# Altium schematic symbol library SCH - ARM CORTEX - STM STM32F103T(4-6)Ux.SchLib: 1 symbol
Pins are listed as number, name and electrical type; pins without a type are passive.

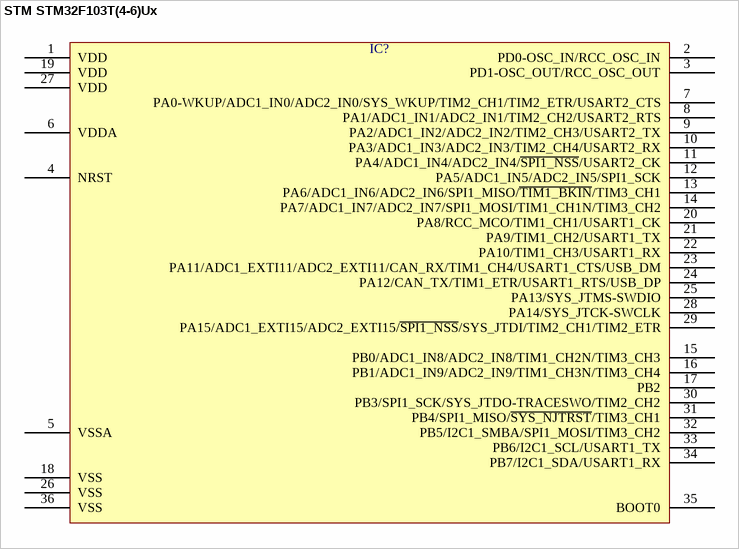
[diagram p0: symbol STM STM32F103T(4-6)Ux]

## STM STM32F103T(4-6)Ux
designator IC?  (value not drawn)
pins: 1 VDD, 2 PD0-OSC_IN/RCC_OSC_IN, 3 PD1-OSC_OUT/RCC_OSC_OUT, 4 NRST, 5 VSSA, 6 VDDA, 7 PA0-WKUP/ADC1_IN0/ADC2_IN0/SYS_WKUP/TIM2_CH1/TIM2_ETR/USART2_CTS, 8 PA1/ADC1_IN1/ADC2_IN1/TIM2_CH2/USART2_RTS, 9 PA2/ADC1_IN2/ADC2_IN2/TIM2_CH3/USART2_TX, 10 PA3/ADC1_IN3/ADC2_IN3/TIM2_CH4/USART2_RX, 11 PA4/ADC1_IN4/ADC2_IN4/~{SPI1_NSS}/USART2_CK, 12 PA5/ADC1_IN5/ADC2_IN5/SPI1_SCK, 13 PA6/ADC1_IN6/ADC2_IN6/SPI1_MISO/~{TIM1_BKIN}/TIM3_CH1, 14 PA7/ADC1_IN7/ADC2_IN7/SPI1_MOSI/TIM1_CH1N/TIM3_CH2, 15 PB0/ADC1_IN8/ADC2_IN8/TIM1_CH2N/TIM3_CH3, 16 PB1/ADC1_IN9/ADC2_IN9/TIM1_CH3N/TIM3_CH4, 17 PB2, 18 VSS, 19 VDD, 20 PA8/RCC_MCO/TIM1_CH1/USART1_CK, 21 PA9/TIM1_CH2/USART1_TX, 22 PA10/TIM1_CH3/USART1_RX, 23 PA11/ADC1_EXTI11/ADC2_EXTI11/CAN_RX/TIM1_CH4/USART1_CTS/USB_DM, 24 PA12/CAN_TX/TIM1_ETR/USART1_RTS/USB_DP, 25 PA13/SYS_JTMS-SWDIO, 26 VSS, 27 VDD, 28 PA14/SYS_JTCK-SWCLK, 29 PA15/ADC1_EXTI15/ADC2_EXTI15/~{SPI1_NSS}/SYS_JTDI/TIM2_CH1/TIM2_ETR, 30 PB3/SPI1_SCK/SYS_JTDO-TRACESWO/TIM2_CH2, 31 PB4/SPI1_MISO/~{SYS_NJTRST}/TIM3_CH1, 32 PB5/I2C1_SMBA/SPI1_MOSI/TIM3_CH2, 33 PB6/I2C1_SCL/USART1_TX, 34 PB7/I2C1_SDA/USART1_RX, 35 BOOT0, 36 VSS